# Altium integrated library NXP Microcontrollers ARM7.IntLib: 82 symbols (part 3 of 11)
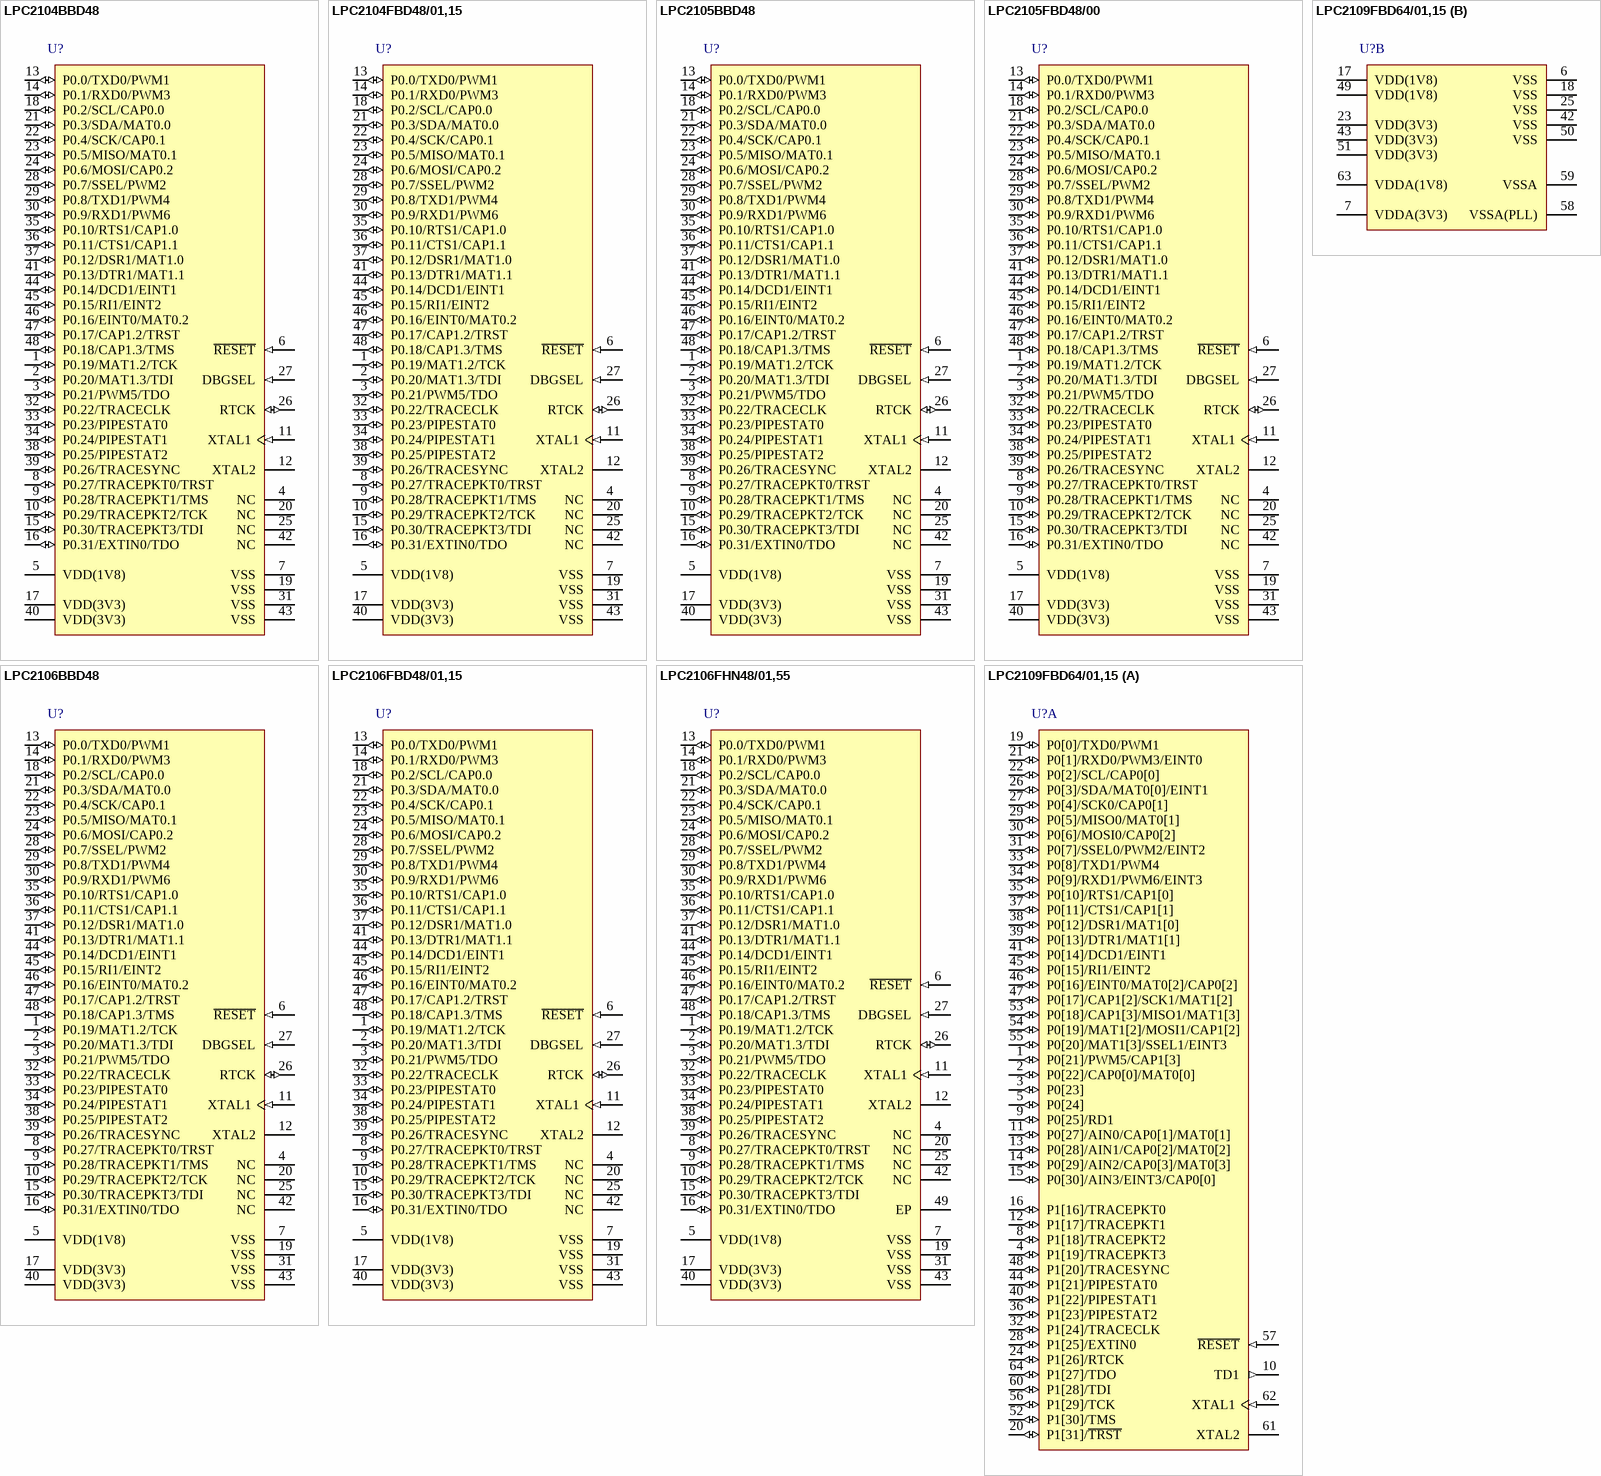
[diagram p37: symbols LPC2104BBD48 to LPC2109FBD64/01,15]

## LPC2106FBD48/01,15
designator U?
16/32-bit ARM7 Microcontroller, 32 I/O, 128 kB Flash, 64 kB SRAM, -40 to 85 degC, 48-Pin LQFP, Tray; Manufacturer: NXP Semiconductors; PartNumber: LPC2106FBD48/01,15; # of timers: 2; Flash (KB): 128; fmax [max] (MHz): 60; I/O Pins: 32; I2C: 1; PLL: TRUE; PWM: 6; RAM (KB): 64; DatasheetVersion: Rev. 07; PackageVersion: Feb-03; PackageReference: SOT313-2; PackageDescription: 48-Pin Plastic Low Profile Quad Flat Package, Body 7 x 7 mm, Pitch 0.5 mm; Supplier 1: Digi-Key; Supplier Part Number 1: 568-4367-ND; Supplier 2: Farnell; Supplier Part Number 2: 1868297; Supplier 3: Newark; Supplier Part Number 3: 70R5613; Supplier 4: Mouser; Supplier Part Number 4: 771-LPC2106FBD48/01S; Core: ARM7; Packing: Tray; SPI: 1; Timer (bits): 32; UART: 2; Mounting Technology: Surface Mount; Code_JEDEC: MS-026; ComponentLink1Description: Manufacturer URL; ComponentLink1URL: http://www.nxp.com/; ComponentLink2Description: Datasheet; ComponentLink2URL: http://www.nxp.com/documents/data_sheet/LPC2104_2105_2106.pdf; ComponentLink3Description: Package Specification; ComponentLink3URL: http://www.nxp.com/documents/outline_drawing/sot313-2_po.pdf
footprint NXP-SOT313-2_V (QFP, 48-Leads, Body 7x7mm, Pitch 0.5mm)
pins: 1 P0.19/MAT1.2/TCK (io), 2 P0.20/MAT1.3/TDI (io), 3 P0.21/PWM5/TDO (io), 4 NC "not connected; these pins are not connected in the 48-pin package.", 5 VDD(1V8) (power) "1.8 V core power supply; this is the power supply voltage for internal circuitry.", 6 ~{RESET} (in) "external reset input; a LOW on this pin resets the device, causing I/O ports and peripherals to take on their default states, and processor execution to begin at address 0. TTL with hysteresis, 5 V tolerant.", 7 VSS (power) "ground: 0 V reference.", 8 P0.27/TRACEPKT0/TRST (io), 9 P0.28/TRACEPKT1/TMS (io), 10 P0.29/TRACEPKT2/TCK (io), 11 XTAL1 (in) "input to the oscillator circuit and internal clock generator circuits.", 12 XTAL2 "output from the oscillator amplifier.", 13 P0.0/TXD0/PWM1 (io), 14 P0.1/RXD0/PWM3 (io), 15 P0.30/TRACEPKT3/TDI (io), 16 P0.31/EXTIN0/TDO (io), 17 VDD(3V3) (power) "3.3 V pad power supply; this is the power supply voltage for the I/O ports.", 18 P0.2/SCL/CAP0.0 (io), 19 VSS (power) "ground: 0 V reference.", 20 NC "not connected; these pins are not connected in the 48-pin package.", 21 P0.3/SDA/MAT0.0 (io), 22 P0.4/SCK/CAP0.1 (io), 23 P0.5/MISO/MAT0.1 (io), 24 P0.6/MOSI/CAP0.2 (io), 25 NC "not connected; these pins are not connected in the 48-pin package.", 26 RTCK (io) "Returned Test Clock output: Extra signal added to the JTAG port. Assists debugger synchronization when processor frequency varies. Also used during debug mode entry to select primary or secondary JTAG pins with the 48-pin (See Datasheet)", 27 DBGSEL (in) "Debug Select: When LOW, the part operates normally. When HIGH, debug mode is entered. Input pin with internal pull-down.", 28 P0.7/SSEL/PWM2 (io), 29 P0.8/TXD1/PWM4 (io), 30 P0.9/RXD1/PWM6 (io), 31 VSS (power) "ground: 0 V reference.", 32 P0.22/TRACECLK (io), 33 P0.23/PIPESTAT0 (io), 34 P0.24/PIPESTAT1 (io), 35 P0.10/RTS1/CAP1.0 (io), 36 P0.11/CTS1/CAP1.1 (io), 37 P0.12/DSR1/MAT1.0 (io), 38 P0.25/PIPESTAT2 (io), 39 P0.26/TRACESYNC (io), 40 VDD(3V3) (power) "3.3 V pad power supply; this is the power supply voltage for the I/O ports.", 41 P0.13/DTR1/MAT1.1 (io), 42 NC, 43 VSS (power) "ground: 0 V reference.", 44 P0.14/DCD1/EINT1 (io), 45 P0.15/RI1/EINT2 (io), 46 P0.16/EINT0/MAT0.2 (io), 47 P0.17/CAP1.2/TRST (io), 48 P0.18/CAP1.3/TMS (io)

## LPC2106FHN48/01,55
designator U?
16/32-bit ARM7 Microcontroller, 32 I/O, 128 kB Flash, 64 kB SRAM, -40 to 85 degC, 48-Pin HVQFN, Tray; Manufacturer: NXP Semiconductors; PartNumber: LPC2106FHN48/01,55; # of timers: 2; Flash (KB): 128; fmax [max] (MHz): 60; I/O Pins: 32; I2C: 1; PLL: TRUE; PWM: 6; RAM (KB): 64; DatasheetVersion: Rev. 07; PackageVersion: Nov-12; PackageReference: SOT619-1; PackageDescription: 48-Pin Plastic Thermal Enhanced Very Thin Quad Flat Package, Body 7 x 7 mm, Pitch 0.5 mm; Supplier 1: Digi-Key; Supplier Part Number 1: 568-4368-ND; Supplier 2: Newark; Supplier Part Number 2: 70R5614; Supplier 3: Mouser; Supplier Part Number 3: 771-LPC2106FHN48/01S; Core: ARM7; Packing: Tray; SPI: 1; SSP: 1; Timer (bits): 32; UART: 2; Mounting Technology: Surface Mount; Code_JEDEC: MO-220; ComponentLink1Description: Manufacturer URL; ComponentLink1URL: http://www.nxp.com/; ComponentLink2Description: Datasheet; ComponentLink2URL: http://www.nxp.com/documents/data_sheet/LPC2104_2105_2106.pdf; ComponentLink3Description: Package Specification; ComponentLink3URL: http://www.nxp.com/documents/outline_drawing/sot619-1_po.pdf
footprint NXP-SOT619-1_V (QFN, 48-Leads, Body 7x7mm, Pitch 0.5mm, Thermal Pad 5.1x5.1mm)
pins: 1 P0.19/MAT1.2/TCK (io), 2 P0.20/MAT1.3/TDI (io), 3 P0.21/PWM5/TDO (io), 4 NC "not connected; these pins are not connected in the 48-pin package.", 5 VDD(1V8) (power) "1.8 V core power supply; this is the power supply voltage for internal circuitry.", 6 ~{RESET} (in) "external reset input; a LOW on this pin resets the device, causing I/O ports and peripherals to take on their default states, and processor execution to begin at address 0. TTL with hysteresis, 5 V tolerant.", 7 VSS (power) "ground: 0 V reference.", 8 P0.27/TRACEPKT0/TRST (io), 9 P0.28/TRACEPKT1/TMS (io), 10 P0.29/TRACEPKT2/TCK (io), 11 XTAL1 (in) "input to the oscillator circuit and internal clock generator circuits.", 12 XTAL2 "output from the oscillator amplifier.", 13 P0.0/TXD0/PWM1 (io), 14 P0.1/RXD0/PWM3 (io), 15 P0.30/TRACEPKT3/TDI (io), 16 P0.31/EXTIN0/TDO (io), 17 VDD(3V3) (power) "3.3 V pad power supply; this is the power supply voltage for the I/O ports.", 18 P0.2/SCL/CAP0.0 (io), 19 VSS (power) "ground: 0 V reference.", 20 NC "not connected; these pins are not connected in the 48-pin package.", 21 P0.3/SDA/MAT0.0 (io), 22 P0.4/SCK/CAP0.1 (io), 23 P0.5/MISO/MAT0.1 (io), 24 P0.6/MOSI/CAP0.2 (io), 25 NC "not connected; these pins are not connected in the 48-pin package.", 26 RTCK (io) "Returned Test Clock output: Extra signal added to the JTAG port. Assistsdebugger synchronization when processor frequency varies. Also used during debug mode entry to select primary or secondary JTAG pins with the (See Datasheet)", 27 DBGSEL (in) "Debug Select: When LOW, the part operates normally. When HIGH, debug mode is entered. Input pin with internal pull-down.", 28 P0.7/SSEL/PWM2 (io), 29 P0.8/TXD1/PWM4 (io), 30 P0.9/RXD1/PWM6 (io), 31 VSS (power) "ground: 0 V reference.", 32 P0.22/TRACECLK (io), 33 P0.23/PIPESTAT0 (io), 34 P0.24/PIPESTAT1 (io), 35 P0.10/RTS1/CAP1.0 (io), 36 P0.11/CTS1/CAP1.1 (io), 37 P0.12/DSR1/MAT1.0 (io), 38 P0.25/PIPESTAT2 (io), 39 P0.26/TRACESYNC (io), 40 VDD(3V3) (power) "3.3 V pad power supply; this is the power supply voltage for the I/O ports.", 41 P0.13/DTR1/MAT1.1 (io), 42 NC "not connected; these pins are not connected in the 48-pin package.", 43 VSS (power) "ground: 0 V reference.", 44 P0.14/DCD1/EINT1 (io), 45 P0.15/RI1/EINT2 (io), 46 P0.16/EINT0/MAT0.2 (io), 47 P0.17/CAP1.2/TRST (io), 48 P0.18/CAP1.3/TMS (io), 49 EP

## LPC2109FBD64/01,15
designator U?
16/32-bit ARM7 Microcontroller, 46 I/O, 64 kB Flash, 8 kB SRAM, -40 to 85 degC, 64-Pin LQFP, Tray; Manufacturer: NXP Semiconductors; PartNumber: LPC2109FBD64/01,15; # of timers: 2; ADC (bits): 10; ADC Channels: 4; CAN: 1; Flash (KB): 64; fmax [max] (MHz): 60; I/O Pins: 46; PLL: TRUE; PWM: 6; RAM (KB): 8; Timer (bits): 32; DatasheetVersion: Rev. 7; PackageVersion: Feb-03; PackageReference: SOT314-2; PackageDescription: 64-Pin Plastic Low Profile Quad Flat Package, Body 10 x 10 mm, Pitch 0.5 mm; Supplier 1: Digi-Key; Supplier Part Number 1: 568-4311-ND; Supplier 2: Newark; Supplier Part Number 2: 70R5615; Supplier 3: Mouser; Supplier Part Number 3: 771-LPC2109FBD64/01S; Core: ARM7; I2C: 1; Packing: Tray; SPI: 2; SSP: 1; UART: 2; Mounting Technology: Surface Mount; Code_JEDEC: MS-026; ComponentLink1Description: Manufacturer URL; ComponentLink1URL: http://www.nxp.com/; ComponentLink2Description: Datasheet; ComponentLink2URL: http://www.nxp.com/documents/data_sheet/LPC2109_2119_2129.pdf; ComponentLink3Description: Package Specification; ComponentLink3URL: http://www.nxp.com/documents/outline_drawing/sot314-2_po.pdf
footprint NXP-SOT314-2_V (QFP, 64-Leads, Body 10x10mm, Pitch 0.5mm)
part A pins: 1 P0[21]/PWM5/CAP1[3] (io), 2 P0[22]/CAP0[0]/MAT0[0] (io), 3 P0[23] (io), 4 P1[19]/TRACEPKT3 (io), 5 P0[24] (io), 8 P1[18]/TRACEPKT2 (io), 9 P0[25]/RD1 (io), 10 TD1 (out) "CAN1 transmitter output.", 11 P0[27]/AIN0/CAP0[1]/MAT0[1] (io), 12 P1[17]/TRACEPKT1 (io), 13 P0[28]/AIN1/CAP0[2]/MAT0[2] (io), 14 P0[29]/AIN2/CAP0[3]/MAT0[3] (io), 15 P0[30]/AIN3/EINT3/CAP0[0] (io), 16 P1[16]/TRACEPKT0 (io), 19 P0[0]/TXD0/PWM1 (io), 20 P1[31]/~{TRST} (io), 21 P0[1]/RXD0/PWM3/EINT0 (io), 22 P0[2]/SCL/CAP0[0] (io), 24 P1[26]/RTCK (io), 26 P0[3]/SDA/MAT0[0]/EINT1 (io), 27 P0[4]/SCK0/CAP0[1] (io), 28 P1[25]/EXTIN0 (io), 29 P0[5]/MISO0/MAT0[1] (io), 30 P0[6]/MOSI0/CAP0[2] (io), 31 P0[7]/SSEL0/PWM2/EINT2 (io), 32 P1[24]/TRACECLK (io), 33 P0[8]/TXD1/PWM4 (io), 34 P0[9]/RXD1/PWM6/EINT3 (io), 35 P0[10]/RTS1/CAP1[0] (io), 36 P1[23]/PIPESTAT2 (io), 37 P0[11]/CTS1/CAP1[1] (io), 38 P0[12]/DSR1/MAT1[0] (io), 39 P0[13]/DTR1/MAT1[1] (io), 40 P1[22]/PIPESTAT1 (io), 41 P0[14]/DCD1/EINT1 (io), 44 P1[21]/PIPESTAT0 (io), 45 P0[15]/RI1/EINT2 (io), 46 P0[16]/EINT0/MAT0[2]/CAP0[2] (io), 47 P0[17]/CAP1[2]/SCK1/MAT1[2] (io), 48 P1[20]/TRACESYNC (io), 52 P1[30]/TMS (io), 53 P0[18]/CAP1[3]/MISO1/MAT1[3] (io), 54 P0[19]/MAT1[2]/MOSI1/CAP1[2] (io), 55 P0[20]/MAT1[3]/SSEL1/EINT3 (io), 56 P1[29]/TCK (io), 57 ~{RESET} (in) "External reset input; a LOW on this pin resets the device, causing I/O ports and peripherals to take on their default states, and processor execution to begin at address 0. TTL with hysteresis, 5 V tolerant.", 60 P1[28]/TDI (io), 61 XTAL2 "Output from the oscillator amplifier.", 62 XTAL1 (in) "Input to the oscillator circuit and internal clock generator circuits.", 64 P1[27]/TDO (io)
part B pins: 6 VSS (power) "Ground: 0 V reference.", 7 VDDA(3V3) (power) "Analog 3.3 V pad power supply; this should be nominally the same voltage as VDD(3V3) but should be isolated to minimize noise and error.", 17 VDD(1V8) (power) "1.8 V core power supply; this is the power supply voltage for internal circuitry.", 18 VSS (power) "Ground: 0 V reference.", 23 VDD(3V3) (power) "3.3 V pad power supply; this is the power supply voltage for the I/O ports.", 25 VSS (power) "Ground: 0 V reference.", 42 VSS (power) "Ground: 0 V reference.", 43 VDD(3V3) (power) "3.3 V pad power supply; this is the power supply voltage for the I/O ports.", 49 VDD(1V8) (power) "1.8 V core power supply; this is the power supply voltage for internal circuitry.", 50 VSS (power) "Ground: 0 V reference.", 51 VDD(3V3) (power) "3.3 V pad power supply; this is the power supply voltage for the I/O ports.", 58 VSSA(PLL) (power) "PLL analog ground; 0 V reference. This should nominally be the same voltage as VSS, but should be isolated to minimize noise and error.", 59 VSSA (power) "Analog ground; 0 V reference. This should nominally be the same voltage as VSS, but should be isolated to minimize noise and error.", 63 VDDA(1V8) (power) "Analog 1.8 V core power supply; this is the power supply voltage for internal circuitry. This should be nominally the same voltage as VDD(1V8) but should be isolated to minimize noise and error."

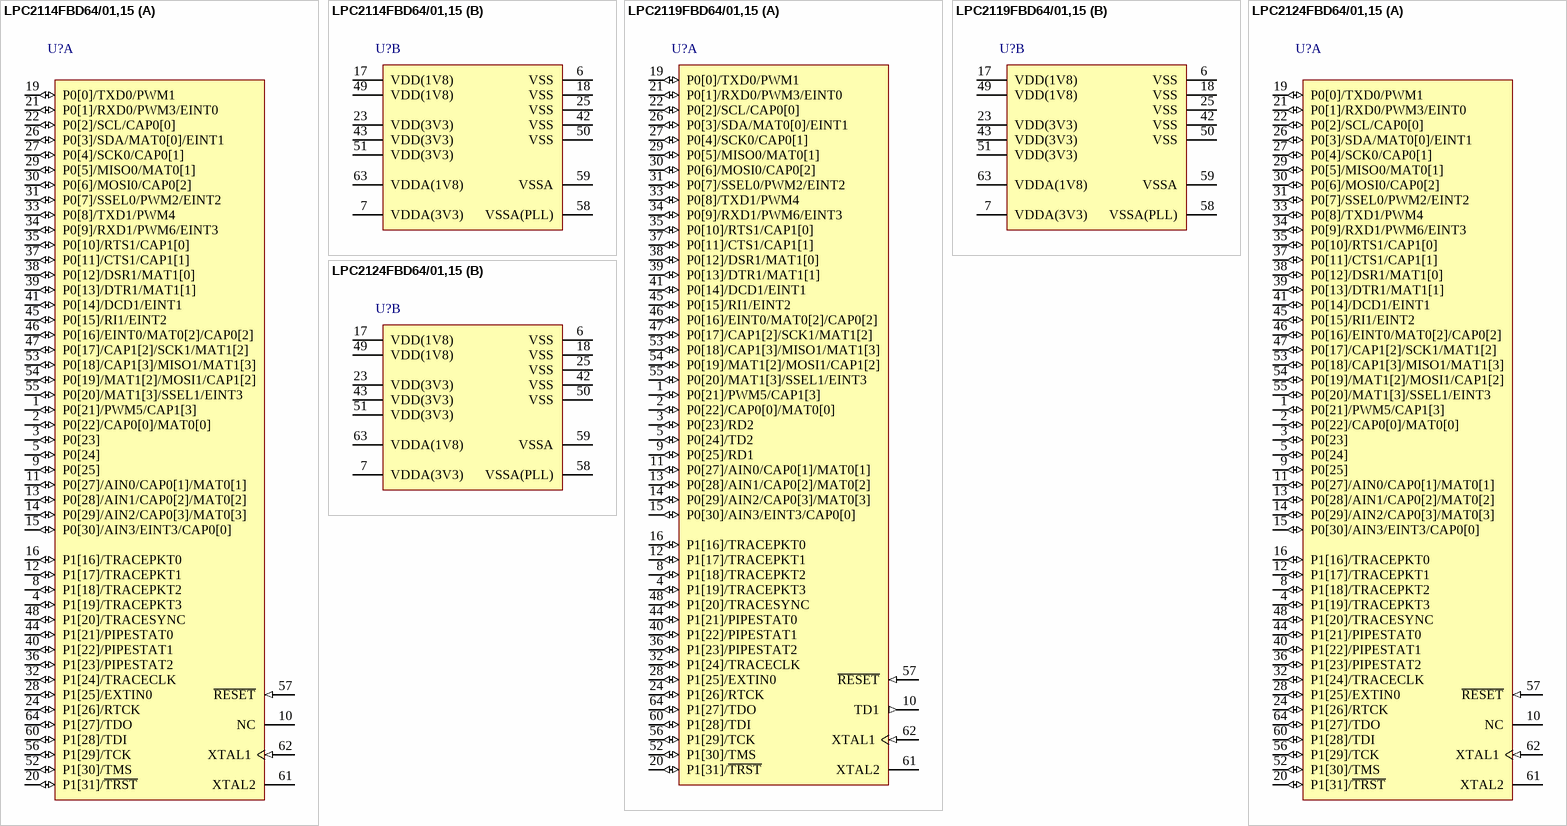
[diagram p6: symbols LPC2114FBD64/01,15 to LPC2124FBD64/01,15]

## LPC2114FBD64/01,15
designator U?
16/32-bit ARM7 Microcontroller, 46 I/O, 128 kB Flash, 16 kB SRAM, -40 to 85 degC, 64-Pin LQFP, Tray; Manufacturer: NXP Semiconductors; PartNumber: LPC2114FBD64/01,15; # of timers: 2; ADC (bits): 10; ADC Channels: 4; Flash (KB): 128; fmax [max] (MHz): 60; I/O Pins: 46; I2C: 1; PLL: TRUE; PWM: 6; RAM (KB): 16; Timer (bits): 32; DatasheetVersion: Rev. 7; PackageVersion: Feb-03; PackageReference: SOT314-2; PackageDescription: 64-Pin Plastic Low Profile Quad Flat Package, Body 10 x 10 mm, Pitch 0.5 mm; Supplier 1: Digi-Key; Supplier Part Number 1: 568-4312-ND; Supplier 2: Newark; Supplier Part Number 2: 70R5616; Supplier 3: Mouser; Supplier Part Number 3: 771-LPC2114FBD64/01S; Core: ARM7; Packing: Tray; SPI: 2; SSP: 1; UART: 2; Mounting Technology: Surface Mount; Code_JEDEC: MS-026; ComponentLink1Description: Manufacturer URL; ComponentLink1URL: http://www.nxp.com/; ComponentLink2Description: Datasheet; ComponentLink2URL: http://www.nxp.com/documents/data_sheet/LPC2114_2124.pdf; ComponentLink3Description: Package Specification; ComponentLink3URL: http://www.nxp.com/documents/outline_drawing/sot314-2_po.pdf
footprint NXP-SOT314-2_V (QFP, 64-Leads, Body 10x10mm, Pitch 0.5mm)
part A pins: 1 P0[21]/PWM5/CAP1[3] (io), 2 P0[22]/CAP0[0]/MAT0[0] (io), 3 P0[23] (io) "Port 0 is a 32-bit bidirectional I/O port with individual direction controls for each bit. The operation of port 0 pins depends upon the pin function selected via the Pin Connect Block. Pins 26 and 31 of port 0 are not (See Datasheet)", 4 P1[19]/TRACEPKT3 (io), 5 P0[24] (io) "Port 0 is a 32-bit bidirectional I/O port with individual direction controls for each bit. The operation of port 0 pins depends upon the pin function selected via the Pin Connect Block. Pins 26 and 31 of port 0 are not (See Datasheet)", 8 P1[18]/TRACEPKT2 (io), 9 P0[25] (io) "Port 0 is a 32-bit bidirectional I/O port with individual direction controls for each bit. The operation of port 0 pins depends upon the pin function selected via the Pin Connect Block. Pins 26 and 31 of port 0 are not (See Datasheet)", 10 NC "pin not connected.", 11 P0[27]/AIN0/CAP0[1]/MAT0[1] (io), 12 P1[17]/TRACEPKT1 (io), 13 P0[28]/AIN1/CAP0[2]/MAT0[2] (io), 14 P0[29]/AIN2/CAP0[3]/MAT0[3] (io), 15 P0[30]/AIN3/EINT3/CAP0[0] (io), 16 P1[16]/TRACEPKT0 (io), 19 P0[0]/TXD0/PWM1 (io), 20 P1[31]/~{TRST} (io), 21 P0[1]/RXD0/PWM3/EINT0 (io), 22 P0[2]/SCL/CAP0[0] (io), 24 P1[26]/RTCK (io), 26 P0[3]/SDA/MAT0[0]/EINT1 (io), 27 P0[4]/SCK0/CAP0[1] (io), 28 P1[25]/EXTIN0 (io), 29 P0[5]/MISO0/MAT0[1] (io), 30 P0[6]/MOSI0/CAP0[2] (io), 31 P0[7]/SSEL0/PWM2/EINT2 (io), 32 P1[24]/TRACECLK (io), 33 P0[8]/TXD1/PWM4 (io), 34 P0[9]/RXD1/PWM6/EINT3 (io), 35 P0[10]/RTS1/CAP1[0] (io), 36 P1[23]/PIPESTAT2 (io), 37 P0[11]/CTS1/CAP1[1] (io), 38 P0[12]/DSR1/MAT1[0] (io), 39 P0[13]/DTR1/MAT1[1] (io), 40 P1[22]/PIPESTAT1 (io), 41 P0[14]/DCD1/EINT1 (io), 44 P1[21]/PIPESTAT0 (io), 45 P0[15]/RI1/EINT2 (io), 46 P0[16]/EINT0/MAT0[2]/CAP0[2] (io), 47 P0[17]/CAP1[2]/SCK1/MAT1[2] (io), 48 P1[20]/TRACESYNC (io), 52 P1[30]/TMS (io), 53 P0[18]/CAP1[3]/MISO1/MAT1[3] (io), 54 P0[19]/MAT1[2]/MOSI1/CAP1[2] (io), 55 P0[20]/MAT1[3]/SSEL1/EINT3 (io), 56 P1[29]/TCK (io), 57 ~{RESET} (in) "external reset input; a LOW on this pin resets the device, causing I/O ports and peripherals to take on their default states, and processor execution to begin at address 0. TTL with hysteresis, 5 V tolerant.", 60 P1[28]/TDI (io), 61 XTAL2 "output from the oscillator amplifier.", 62 XTAL1 (in) "input to the oscillator circuit and internal clock generator circuits.", 64 P1[27]/TDO (io)
part B pins: 6 VSS (power) "ground: 0 V reference.", 7 VDDA(3V3) (power) "analog 3.3 V pad power supply; this should be nominally the same voltage as VDD(3V3) but should be isolated to minimize noise and error", 17 VDD(1V8) (power) "1.8 V core power supply; this is the power supply voltage for internal circuitry.", 18 VSS (power) "ground: 0 V reference.", 23 VDD(3V3) (power) "3.3 V pad power supply; this is the power supply voltage for the I/O ports", 25 VSS (power) "ground: 0 V reference.", 42 VSS (power) "ground: 0 V reference.", 43 VDD(3V3) (power) "3.3 V pad power supply; this is the power supply voltage for the I/O ports", 49 VDD(1V8) (power) "1.8 V core power supply; this is the power supply voltage for internal circuitry.", 50 VSS (power) "ground: 0 V reference.", 51 VDD(3V3) (power) "3.3 V pad power supply; this is the power supply voltage for the I/O ports", 58 VSSA(PLL) (power) "PLL analog ground; 0 V reference. This should nominally be the same voltage as VSS, but should be isolated to minimize noise and error", 59 VSSA (power) "analog ground; 0 V reference. This should nominally be the same voltage as VSS, but should be isolated to minimize noise and error.", 63 VDDA(1V8) (power) "analog 1.8 V core power supply; this is the power supply voltage for internal circuitry. This should be nominally the same voltage as VDD(1V8) but should be isolated to minimize noise and error."

## LPC2119FBD64/01,15
designator U?
16/32-bit ARM7 Microcontroller, 46 I/O, 128 kB Flash, 16 kB SRAM, -40 to 85 degC, 64-Pin LQFP, Tray; Manufacturer: NXP Semiconductors; PartNumber: LPC2119FBD64/01,15; # of timers: 2; ADC (bits): 10; ADC Channels: 4; Flash (KB): 128; fmax [max] (MHz): 60; I/O Pins: 46; I2C: 1; PLL: TRUE; PWM: 6; RAM (KB): 16; Timer (bits): 32; DatasheetVersion: Rev. 7; PackageVersion: Feb-03; PackageReference: SOT314-2; PackageDescription: 64-Pin Plastic Low Profile Quad Flat Package, Body 10 x 10 mm, Pitch 0.5 mm; Supplier 1: Digi-Key; Supplier Part Number 1: 568-4313-ND; Supplier 2: Farnell; Supplier Part Number 2: 2407831; Supplier 3: Newark; Supplier Part Number 3: 70R5617; Supplier 4: Mouser; Supplier Part Number 4: 771-LPC2119FBD64/01S; CAN: 2; Core: ARM7; Packing: Tray; SPI: 2; UART: 2; Mounting Technology: Surface Mount; Code_JEDEC: MS-026; ComponentLink1Description: Manufacturer URL; ComponentLink1URL: http://www.nxp.com/; ComponentLink2Description: Datasheet; ComponentLink2URL: http://www.nxp.com/documents/data_sheet/LPC2109_2119_2129.pdf; ComponentLink3Description: Package Specification; ComponentLink3URL: http://www.nxp.com/documents/outline_drawing/sot314-2_po.pdf
footprint NXP-SOT314-2_V (QFP, 64-Leads, Body 10x10mm, Pitch 0.5mm)
part A pins: 1 P0[21]/PWM5/CAP1[3] (io), 2 P0[22]/CAP0[0]/MAT0[0] (io), 3 P0[23]/RD2 (io), 4 P1[19]/TRACEPKT3 (io), 5 P0[24]/TD2 (io), 8 P1[18]/TRACEPKT2 (io), 9 P0[25]/RD1 (io), 10 TD1 (out) "CAN1 transmitter output.", 11 P0[27]/AIN0/CAP0[1]/MAT0[1] (io), 12 P1[17]/TRACEPKT1 (io), 13 P0[28]/AIN1/CAP0[2]/MAT0[2] (io), 14 P0[29]/AIN2/CAP0[3]/MAT0[3] (io), 15 P0[30]/AIN3/EINT3/CAP0[0] (io), 16 P1[16]/TRACEPKT0 (io), 19 P0[0]/TXD0/PWM1 (io), 20 P1[31]/~{TRST} (io), 21 P0[1]/RXD0/PWM3/EINT0 (io), 22 P0[2]/SCL/CAP0[0] (io), 24 P1[26]/RTCK (io), 26 P0[3]/SDA/MAT0[0]/EINT1 (io), 27 P0[4]/SCK0/CAP0[1] (io), 28 P1[25]/EXTIN0 (io), 29 P0[5]/MISO0/MAT0[1] (io), 30 P0[6]/MOSI0/CAP0[2] (io), 31 P0[7]/SSEL0/PWM2/EINT2 (io), 32 P1[24]/TRACECLK (io), 33 P0[8]/TXD1/PWM4 (io), 34 P0[9]/RXD1/PWM6/EINT3 (io), 35 P0[10]/RTS1/CAP1[0] (io), 36 P1[23]/PIPESTAT2 (io), 37 P0[11]/CTS1/CAP1[1] (io), 38 P0[12]/DSR1/MAT1[0] (io), 39 P0[13]/DTR1/MAT1[1] (io), 40 P1[22]/PIPESTAT1 (io), 41 P0[14]/DCD1/EINT1 (io), 44 P1[21]/PIPESTAT0 (io), 45 P0[15]/RI1/EINT2 (io), 46 P0[16]/EINT0/MAT0[2]/CAP0[2] (io), 47 P0[17]/CAP1[2]/SCK1/MAT1[2] (io), 48 P1[20]/TRACESYNC (io), 52 P1[30]/TMS (io), 53 P0[18]/CAP1[3]/MISO1/MAT1[3] (io), 54 P0[19]/MAT1[2]/MOSI1/CAP1[2] (io), 55 P0[20]/MAT1[3]/SSEL1/EINT3 (io), 56 P1[29]/TCK (io), 57 ~{RESET} (in) "External reset input; a LOW on this pin resets the device, causing I/O ports and peripherals to take on their default states, and processor execution to begin at address 0. TTL with hysteresis, 5 V tolerant.", 60 P1[28]/TDI (io), 61 XTAL2 "Output from the oscillator amplifier.", 62 XTAL1 (in) "Input to the oscillator circuit and internal clock generator circuits.", 64 P1[27]/TDO (io)
part B pins: 6 VSS (power) "Ground: 0 V reference.", 7 VDDA(3V3) (power) "Analog 3.3 V pad power supply; this should be nominally the same voltage as VDD(3V3) but should be isolated to minimize noise and error.", 17 VDD(1V8) (power) "1.8 V core power supply; this is the power supply voltage for internal circuitry.", 18 VSS (power) "Ground: 0 V reference.", 23 VDD(3V3) (power) "3.3 V pad power supply; this is the power supply voltage for the I/O ports.", 25 VSS (power) "Ground: 0 V reference.", 42 VSS (power) "Ground: 0 V reference.", 43 VDD(3V3) (power) "3.3 V pad power supply; this is the power supply voltage for the I/O ports.", 49 VDD(1V8) (power) "1.8 V core power supply; this is the power supply voltage for internal circuitry.", 50 VSS (power) "Ground: 0 V reference.", 51 VDD(3V3) (power) "3.3 V pad power supply; this is the power supply voltage for the I/O ports.", 58 VSSA(PLL) (power) "PLL analog ground; 0 V reference. This should nominally be the same voltage as VSS, but should be isolated to minimize noise and error.", 59 VSSA (power) "Analog ground; 0 V reference. This should nominally be the same voltage as VSS, but should be isolated to minimize noise and error.", 63 VDDA(1V8) (power) "Analog 1.8 V core power supply; this is the power supply voltage for internal circuitry. This should be nominally the same voltage as VDD(1V8) but should be isolated to minimize noise and error."

## LPC2124FBD64/01,15
designator U?
16/32-bit ARM7 Microcontroller, 46 I/O, 256 kB Flash, 16 kB SRAM, -40 to 85 degC, 64-Pin LQFP, Tray; Manufacturer: NXP Semiconductors; PartNumber: LPC2124FBD64/01,15; # of timers: 2; ADC (bits): 10; ADC Channels: 4; Flash (KB): 256; fmax [max] (MHz): 60; I/O Pins: 46; I2C: 1; PLL: TRUE; PWM: 6; RAM (KB): 16; Timer (bits): 32; DatasheetVersion: Rev. 7; PackageVersion: Feb-03; PackageReference: SOT314-2; PackageDescription: 64-Pin Plastic Low Profile Quad Flat Package, Body 10 x 10 mm, Pitch 0.5 mm; Supplier 1: Digi-Key; Supplier Part Number 1: 568-4314-ND; Supplier 2: Newark; Supplier Part Number 2: 70R5618; Supplier 3: Mouser; Supplier Part Number 3: 771-LPC2124FBD64/01S; Core: ARM7; Packing: Tray; SPI: 2; SSP: 1; UART: 2; Mounting Technology: Surface Mount; Code_JEDEC: MS-026; ComponentLink1Description: Manufacturer URL; ComponentLink1URL: http://www.nxp.com/; ComponentLink2Description: Datasheet; ComponentLink2URL: http://www.nxp.com/documents/data_sheet/LPC2114_2124.pdf; ComponentLink3Description: Package Specification; ComponentLink3URL: http://www.nxp.com/documents/outline_drawing/sot314-2_po.pdf
footprint NXP-SOT314-2_V (QFP, 64-Leads, Body 10x10mm, Pitch 0.5mm)
part A pins: 1 P0[21]/PWM5/CAP1[3] (io), 2 P0[22]/CAP0[0]/MAT0[0] (io), 3 P0[23] (io) "Port 0 is a 32-bit bidirectional I/O port with individual direction controls for each bit. The operation of port 0 pins depends upon the pin function selected via the Pin Connect Block. Pins 26 and 31 of port 0 are not (See Datasheet)", 4 P1[19]/TRACEPKT3 (io), 5 P0[24] (io) "Port 0 is a 32-bit bidirectional I/O port with individual direction controls for each bit. The operation of port 0 pins depends upon the pin function selected via the Pin Connect Block. Pins 26 and 31 of port 0 are not (See Datasheet)", 8 P1[18]/TRACEPKT2 (io), 9 P0[25] (io) "Port 0 is a 32-bit bidirectional I/O port with individual direction controls for each bit. The operation of port 0 pins depends upon the pin function selected via the Pin Connect Block. Pins 26 and 31 of port 0 are not (See Datasheet)", 10 NC "pin not connected.", 11 P0[27]/AIN0/CAP0[1]/MAT0[1] (io), 12 P1[17]/TRACEPKT1 (io), 13 P0[28]/AIN1/CAP0[2]/MAT0[2] (io), 14 P0[29]/AIN2/CAP0[3]/MAT0[3] (io), 15 P0[30]/AIN3/EINT3/CAP0[0] (io), 16 P1[16]/TRACEPKT0 (io), 19 P0[0]/TXD0/PWM1 (io), 20 P1[31]/~{TRST} (io), 21 P0[1]/RXD0/PWM3/EINT0 (io), 22 P0[2]/SCL/CAP0[0] (io), 24 P1[26]/RTCK (io), 26 P0[3]/SDA/MAT0[0]/EINT1 (io), 27 P0[4]/SCK0/CAP0[1] (io), 28 P1[25]/EXTIN0 (io), 29 P0[5]/MISO0/MAT0[1] (io), 30 P0[6]/MOSI0/CAP0[2] (io), 31 P0[7]/SSEL0/PWM2/EINT2 (io), 32 P1[24]/TRACECLK (io), 33 P0[8]/TXD1/PWM4 (io), 34 P0[9]/RXD1/PWM6/EINT3 (io), 35 P0[10]/RTS1/CAP1[0] (io), 36 P1[23]/PIPESTAT2 (io), 37 P0[11]/CTS1/CAP1[1] (io), 38 P0[12]/DSR1/MAT1[0] (io), 39 P0[13]/DTR1/MAT1[1] (io), 40 P1[22]/PIPESTAT1 (io), 41 P0[14]/DCD1/EINT1 (io), 44 P1[21]/PIPESTAT0 (io), 45 P0[15]/RI1/EINT2 (io), 46 P0[16]/EINT0/MAT0[2]/CAP0[2] (io), 47 P0[17]/CAP1[2]/SCK1/MAT1[2] (io), 48 P1[20]/TRACESYNC (io), 52 P1[30]/TMS (io), 53 P0[18]/CAP1[3]/MISO1/MAT1[3] (io), 54 P0[19]/MAT1[2]/MOSI1/CAP1[2] (io), 55 P0[20]/MAT1[3]/SSEL1/EINT3 (io), 56 P1[29]/TCK (io), 57 ~{RESET} (in) "external reset input; a LOW on this pin resets the device, causing I/O ports and peripherals to take on their default states, and processor execution to begin at address 0. TTL with hysteresis, 5 V tolerant.", 60 P1[28]/TDI (io), 61 XTAL2 "output from the oscillator amplifier.", 62 XTAL1 (in) "input to the oscillator circuit and internal clock generator circuits.", 64 P1[27]/TDO (io)
part B pins: 6 VSS (power) "ground: 0 V reference.", 7 VDDA(3V3) (power) "analog 3.3 V pad power supply; this should be nominally the same voltage as VDD(3V3) but should be isolated to minimize noise and error", 17 VDD(1V8) (power) "1.8 V core power supply; this is the power supply voltage for internal circuitry.", 18 VSS (power) "ground: 0 V reference.", 23 VDD(3V3) (power) "3.3 V pad power supply; this is the power supply voltage for the I/O ports", 25 VSS (power) "ground: 0 V reference.", 42 VSS (power) "ground: 0 V reference.", 43 VDD(3V3) (power) "3.3 V pad power supply; this is the power supply voltage for the I/O ports", 49 VDD(1V8) (power) "1.8 V core power supply; this is the power supply voltage for internal circuitry.", 50 VSS (power) "ground: 0 V reference.", 51 VDD(3V3) (power) "3.3 V pad power supply; this is the power supply voltage for the I/O ports", 58 VSSA(PLL) (power) "PLL analog ground; 0 V reference. This should nominally be the same voltage as VSS, but should be isolated to minimize noise and error", 59 VSSA (power) "analog ground; 0 V reference. This should nominally be the same voltage as VSS, but should be isolated to minimize noise and error.", 63 VDDA(1V8) (power) "analog 1.8 V core power supply; this is the power supply voltage for internal circuitry. This should be nominally the same voltage as VDD(1V8) but should be isolated to minimize noise and error."

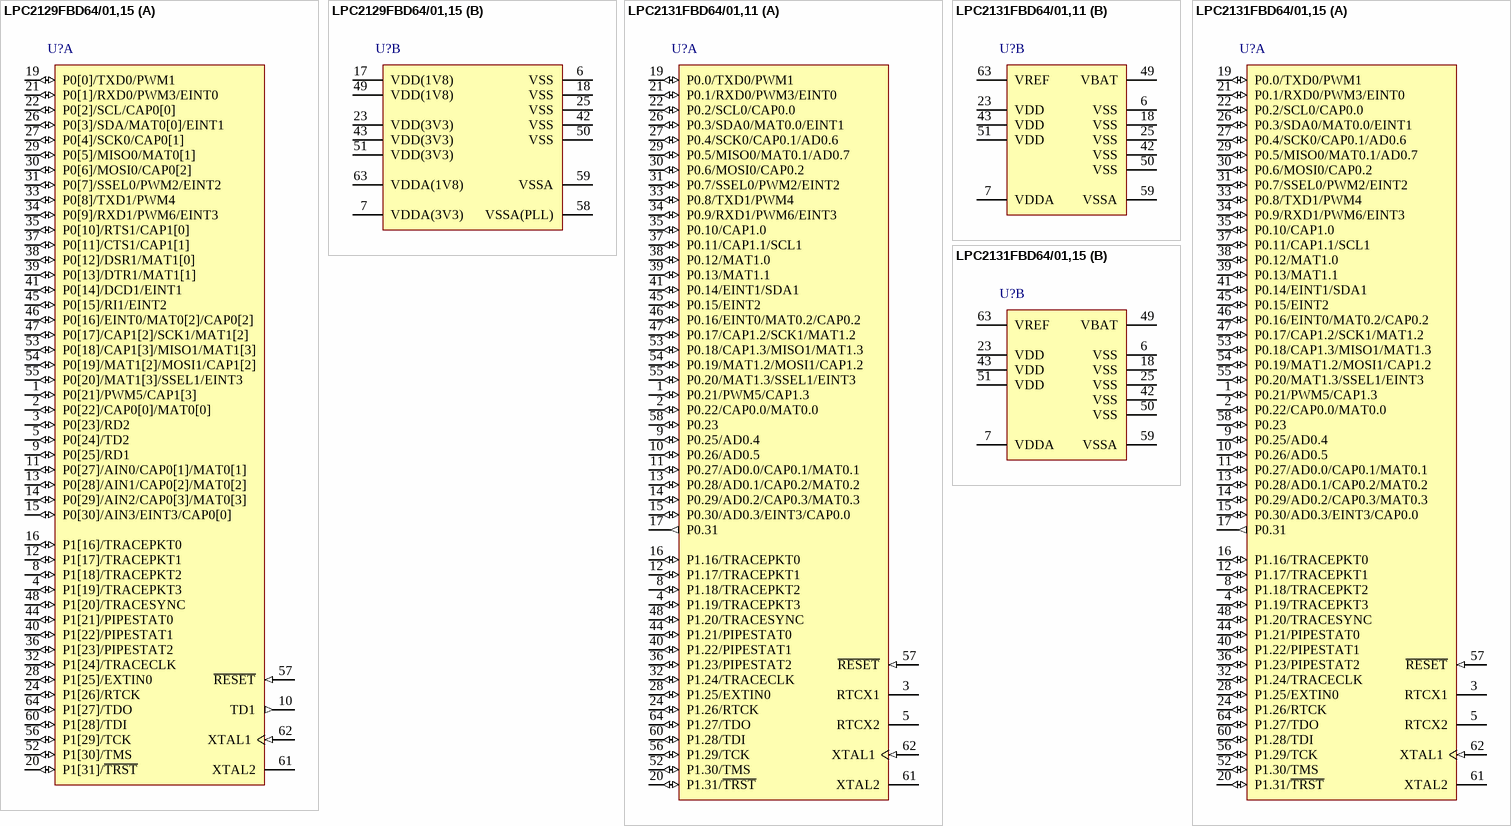
[diagram p7: symbols LPC2129FBD64/01,15 to LPC2131FBD64/01,15]

## LPC2129FBD64/01,15
designator U?
16/32-bit ARM7 Microcontroller, 46 I/O, 256 kB Flash, 16 kB SRAM, -40 to 85 degC, 64-Pin LQFP, Tray; Manufacturer: NXP Semiconductors; PartNumber: LPC2129FBD64/01,15; # of timers: 2; ADC (bits): 10; ADC Channels: 4; Flash (KB): 256; fmax [max] (MHz): 60; I/O Pins: 46; I2C: 1; PLL: TRUE; PWM: 6; RAM (KB): 16; Timer (bits): 32; DatasheetVersion: Rev. 7; PackageVersion: Feb-03; PackageReference: SOT314-2; PackageDescription: 64-Pin Plastic Low Profile Quad Flat Package, Body 10 x 10 mm, Pitch 0.5 mm; Supplier 1: Digi-Key; Supplier Part Number 1: 568-4315-ND; Supplier 2: Farnell; Supplier Part Number 2: 1831175; Supplier 3: Newark; Supplier Part Number 3: 70R5619; Supplier 4: Mouser; Supplier Part Number 4: 771-LPC2129FBD64/01S; CAN: 2; Core: ARM7; Packing: Tray; SPI: 2; SSP: 1; UART: 2; Mounting Technology: Surface Mount; Code_JEDEC: MS-026; ComponentLink1Description: Manufacturer URL; ComponentLink1URL: http://www.nxp.com/; ComponentLink2Description: Datasheet; ComponentLink2URL: http://www.nxp.com/documents/data_sheet/LPC2109_2119_2129.pdf; ComponentLink3Description: Package Specification; ComponentLink3URL: http://www.nxp.com/documents/outline_drawing/sot314-2_po.pdf
footprint NXP-SOT314-2_V (QFP, 64-Leads, Body 10x10mm, Pitch 0.5mm)
part A pins: 1 P0[21]/PWM5/CAP1[3] (io), 2 P0[22]/CAP0[0]/MAT0[0] (io), 3 P0[23]/RD2 (io), 4 P1[19]/TRACEPKT3 (io), 5 P0[24]/TD2 (io), 8 P1[18]/TRACEPKT2 (io), 9 P0[25]/RD1 (io), 10 TD1 (out) "CAN1 transmitter output.", 11 P0[27]/AIN0/CAP0[1]/MAT0[1] (io), 12 P1[17]/TRACEPKT1 (io), 13 P0[28]/AIN1/CAP0[2]/MAT0[2] (io), 14 P0[29]/AIN2/CAP0[3]/MAT0[3] (io), 15 P0[30]/AIN3/EINT3/CAP0[0] (io), 16 P1[16]/TRACEPKT0 (io), 19 P0[0]/TXD0/PWM1 (io), 20 P1[31]/~{TRST} (io), 21 P0[1]/RXD0/PWM3/EINT0 (io), 22 P0[2]/SCL/CAP0[0] (io), 24 P1[26]/RTCK (io), 26 P0[3]/SDA/MAT0[0]/EINT1 (io), 27 P0[4]/SCK0/CAP0[1] (io), 28 P1[25]/EXTIN0 (io), 29 P0[5]/MISO0/MAT0[1] (io), 30 P0[6]/MOSI0/CAP0[2] (io), 31 P0[7]/SSEL0/PWM2/EINT2 (io), 32 P1[24]/TRACECLK (io), 33 P0[8]/TXD1/PWM4 (io), 34 P0[9]/RXD1/PWM6/EINT3 (io), 35 P0[10]/RTS1/CAP1[0] (io), 36 P1[23]/PIPESTAT2 (io), 37 P0[11]/CTS1/CAP1[1] (io), 38 P0[12]/DSR1/MAT1[0] (io), 39 P0[13]/DTR1/MAT1[1] (io), 40 P1[22]/PIPESTAT1 (io), 41 P0[14]/DCD1/EINT1 (io), 44 P1[21]/PIPESTAT0 (io), 45 P0[15]/RI1/EINT2 (io), 46 P0[16]/EINT0/MAT0[2]/CAP0[2] (io), 47 P0[17]/CAP1[2]/SCK1/MAT1[2] (io), 48 P1[20]/TRACESYNC (io), 52 P1[30]/TMS (io), 53 P0[18]/CAP1[3]/MISO1/MAT1[3] (io), 54 P0[19]/MAT1[2]/MOSI1/CAP1[2] (io), 55 P0[20]/MAT1[3]/SSEL1/EINT3 (io), 56 P1[29]/TCK (io), 57 ~{RESET} (in) "External reset input; a LOW on this pin resets the device, causing I/O ports and peripherals to take on their default states, and processor execution to begin at address 0. TTL with hysteresis, 5 V tolerant.", 60 P1[28]/TDI (io), 61 XTAL2 "Output from the oscillator amplifier.", 62 XTAL1 (in) "Input to the oscillator circuit and internal clock generator circuits.", 64 P1[27]/TDO (io)
part B pins: 6 VSS (power) "Ground: 0 V reference.", 7 VDDA(3V3) (power) "Analog 3.3 V pad power supply; this should be nominally the same voltage as VDD(3V3) but should be isolated to minimize noise and error.", 17 VDD(1V8) (power) "1.8 V core power supply; this is the power supply voltage for internal circuitry.", 18 VSS (power) "Ground: 0 V reference.", 23 VDD(3V3) (power) "3.3 V pad power supply; this is the power supply voltage for the I/O ports.", 25 VSS (power) "Ground: 0 V reference.", 42 VSS (power) "Ground: 0 V reference.", 43 VDD(3V3) (power) "3.3 V pad power supply; this is the power supply voltage for the I/O ports.", 49 VDD(1V8) (power) "1.8 V core power supply; this is the power supply voltage for internal circuitry.", 50 VSS (power) "Ground: 0 V reference.", 51 VDD(3V3) (power) "3.3 V pad power supply; this is the power supply voltage for the I/O ports.", 58 VSSA(PLL) (power) "PLL analog ground; 0 V reference. This should nominally be the same voltage as VSS, but should be isolated to minimize noise and error.", 59 VSSA (power) "Analog ground; 0 V reference. This should nominally be the same voltage as VSS, but should be isolated to minimize noise and error.", 63 VDDA(1V8) (power) "Analog 1.8 V core power supply; this is the power supply voltage for internal circuitry. This should be nominally the same voltage as VDD(1V8) but should be isolated to minimize noise and error."

## LPC2131FBD64/01,11
designator U?
16/32-bit ARM7 Microcontroller, 47 I/O, 32 kB Flash, 8 kB SRAM, -40 to 85 degC, 64-Pin LQFP, Reel; Manufacturer: NXP Semiconductors; PartNumber: LPC2131FBD64/01,11; # of timers: 2; ADC (bits): 10; ADC Channels: 8; Flash (KB): 32; fmax [max] (MHz): 60; I/O Pins: 47; PLL: TRUE; PWM: 6; SPI: 1; DatasheetVersion: Rev. 5.1; PackageVersion: Feb-03; PackageReference: SOT314-2; PackageDescription: 64-Pin Plastic Low Profile Quad Flat Package, Body 10 x 10 mm, Pitch 0.5 mm; Supplier 1: Digi-Key; Supplier Part Number 1: LPC2131FBD64/01,11-ND; Supplier 2: Newark; Supplier Part Number 2: 99R2722; Supplier 3: Mouser; Supplier Part Number 3: 771-LPC2131FBD640111; Core: ARM7; I2C: 2; Packing: Reel; RAM (KB): 8; SSP: 1; Timer (bits): 32; UART: 2; Mounting Technology: Surface Mount; Code_JEDEC: MS-026; ComponentLink1Description: Manufacturer URL; ComponentLink1URL: http://www.nxp.com/; ComponentLink2Description: Datasheet; ComponentLink2URL: http://www.nxp.com/documents/data_sheet/LPC2131_32_34_36_38.pdf; ComponentLink3Description: Package Specification; ComponentLink3URL: http://www.nxp.com/documents/outline_drawing/sot314-2_po.pdf
footprint NXP-SOT314-2_V (QFP, 64-Leads, Body 10x10mm, Pitch 0.5mm)
part A pins: 1 P0.21/PWM5/CAP1.3 (io), 2 P0.22/CAP0.0/MAT0.0 (io), 3 RTCX1 "Input to the RTC oscillator circuit.", 4 P1.19/TRACEPKT3 (io), 5 RTCX2 "Output from the RTC oscillator circuit.", 8 P1.18/TRACEPKT2 (io), 9 P0.25/AD0.4 (io), 10 P0.26/AD0.5 (io), 11 P0.27/AD0.0/CAP0.1/MAT0.1 (io), 12 P1.17/TRACEPKT1 (io), 13 P0.28/AD0.1/CAP0.2/MAT0.2 (io), 14 P0.29/AD0.2/CAP0.3/MAT0.3 (io), 15 P0.30/AD0.3/EINT3/CAP0.0 (io), 16 P1.16/TRACEPKT0 (io), 17 P0.31 (out) "General purpose digital output only pin.", 19 P0.0/TXD0/PWM1 (io), 20 P1.31/~{TRST} (io), 21 P0.1/RXD0/PWM3/EINT0 (io), 22 P0.2/SCL0/CAP0.0 (io), 24 P1.26/RTCK (io), 26 P0.3/SDA0/MAT0.0/EINT1 (io), 27 P0.4/SCK0/CAP0.1/AD0.6 (io), 28 P1.25/EXTIN0 (io), 29 P0.5/MISO0/MAT0.1/AD0.7 (io), 30 P0.6/MOSI0/CAP0.2 (io), 31 P0.7/SSEL0/PWM2/EINT2 (io), 32 P1.24/TRACECLK (io), 33 P0.8/TXD1/PWM4 (io), 34 P0.9/RXD1/PWM6/EINT3 (io), 35 P0.10/CAP1.0 (io), 36 P1.23/PIPESTAT2 (io), 37 P0.11/CAP1.1/SCL1 (io), 38 P0.12/MAT1.0 (io), 39 P0.13/MAT1.1 (io), 40 P1.22/PIPESTAT1 (io), 41 P0.14/EINT1/SDA1 (io), 44 P1.21/PIPESTAT0 (io), 45 P0.15/EINT2 (io), 46 P0.16/EINT0/MAT0.2/CAP0.2 (io), 47 P0.17/CAP1.2/SCK1/MAT1.2 (io), 48 P1.20/TRACESYNC (io), 52 P1.30/TMS (io), 53 P0.18/CAP1.3/MISO1/MAT1.3 (io), 54 P0.19/MAT1.2/MOSI1/CAP1.2 (io), 55 P0.20/MAT1.3/SSEL1/EINT3 (io), 56 P1.29/TCK (io), 57 ~{RESET} (in) "External reset input: A LOW on this pin resets the device, causing I/O ports and peripherals to take on their default states, and processor execution to begin at address 0. TTL with hysteresis, 5 V tolerant.", 58 P0.23 (io) "General purpose digital input/output pin.", 60 P1.28/TDI (io), 61 XTAL2 "Output from the oscillator amplifier.", 62 XTAL1 (in) "Input to the oscillator circuit and internal clock generator circuits.", 64 P1.27/TDO (io)
part B pins: 6 VSS (power) "Ground: 0 V reference.", 7 VDDA (power) "Analog 3.3 V power supply: This should be nominally the same voltage as VDD but should be isolated to minimize noise and error. This voltage is used to power the on-chip PLL.", 18 VSS (power) "Ground: 0 V reference.", 23 VDD (power) "3.3 V power supply: This is the power supply voltage for the core and I/O ports.", 25 VSS (power) "Ground: 0 V reference.", 42 VSS (power) "Ground: 0 V reference.", 43 VDD (power) "3.3 V power supply: This is the power supply voltage for the core and I/O ports.", 49 VBAT (power) "RTC power supply: 3.3 V on this pin supplies the power to the RTC.", 50 VSS (power) "Ground: 0 V reference.", 51 VDD (power) "3.3 V power supply: This is the power supply voltage for the core and I/O ports.", 59 VSSA (power) "Analog ground: 0 V reference. This should nominally be the same voltage as VSS, but should be isolated to minimize noise and error.", 63 VREF "ADC reference: This should be nominally the same voltage as VDD but should be isolated to minimize noise and error. Level on this pin is used as a reference for A/D and D/A convertor(s)."

## LPC2131FBD64/01,15
designator U?
16/32-bit ARM7 Microcontroller, 47 I/O, 32 kB Flash, 8 kB SRAM, -40 to 85 degC, 64-Pin LQFP, Tray; Manufacturer: NXP Semiconductors; PartNumber: LPC2131FBD64/01,15; # of timers: 2; ADC (bits): 10; ADC Channels: 8; Flash (KB): 32; fmax [max] (MHz): 60; I/O Pins: 47; PLL: TRUE; PWM: 6; SPI: 1; DatasheetVersion: Rev. 5.1; PackageVersion: Feb-03; PackageReference: SOT314-2; PackageDescription: 64-Pin Plastic Low Profile Quad Flat Package, Body 10 x 10 mm, Pitch 0.5 mm; Supplier 1: Digi-Key; Supplier Part Number 1: 568-4005-ND; Supplier 2: Farnell; Supplier Part Number 2: 1831176; Supplier 3: Newark; Supplier Part Number 3: 70R5620; Supplier 4: Mouser; Supplier Part Number 4: 771-LPC2131FBD64/01S; Core: ARM7; I2C: 2; Packing: Tray; RAM (KB): 8; SSP: 1; Timer (bits): 32; UART: 2; Mounting Technology: Surface Mount; Code_JEDEC: MS-026; ComponentLink1Description: Manufacturer URL; ComponentLink1URL: http://www.nxp.com/; ComponentLink2Description: Datasheet; ComponentLink2URL: http://www.nxp.com/documents/data_sheet/LPC2131_32_34_36_38.pdf; ComponentLink3Description: Package Specification; ComponentLink3URL: http://www.nxp.com/documents/outline_drawing/sot314-2_po.pdf
footprint NXP-SOT314-2_V (QFP, 64-Leads, Body 10x10mm, Pitch 0.5mm)
part A pins: 1 P0.21/PWM5/CAP1.3 (io), 2 P0.22/CAP0.0/MAT0.0 (io), 3 RTCX1 "Input to the RTC oscillator circuit.", 4 P1.19/TRACEPKT3 (io), 5 RTCX2 "Output from the RTC oscillator circuit.", 8 P1.18/TRACEPKT2 (io), 9 P0.25/AD0.4 (io), 10 P0.26/AD0.5 (io), 11 P0.27/AD0.0/CAP0.1/MAT0.1 (io), 12 P1.17/TRACEPKT1 (io), 13 P0.28/AD0.1/CAP0.2/MAT0.2 (io), 14 P0.29/AD0.2/CAP0.3/MAT0.3 (io), 15 P0.30/AD0.3/EINT3/CAP0.0 (io), 16 P1.16/TRACEPKT0 (io), 17 P0.31 (out) "General purpose digital output only pin.", 19 P0.0/TXD0/PWM1 (io), 20 P1.31/~{TRST} (io), 21 P0.1/RXD0/PWM3/EINT0 (io), 22 P0.2/SCL0/CAP0.0 (io), 24 P1.26/RTCK (io), 26 P0.3/SDA0/MAT0.0/EINT1 (io), 27 P0.4/SCK0/CAP0.1/AD0.6 (io), 28 P1.25/EXTIN0 (io), 29 P0.5/MISO0/MAT0.1/AD0.7 (io), 30 P0.6/MOSI0/CAP0.2 (io), 31 P0.7/SSEL0/PWM2/EINT2 (io), 32 P1.24/TRACECLK (io), 33 P0.8/TXD1/PWM4 (io), 34 P0.9/RXD1/PWM6/EINT3 (io), 35 P0.10/CAP1.0 (io), 36 P1.23/PIPESTAT2 (io), 37 P0.11/CAP1.1/SCL1 (io), 38 P0.12/MAT1.0 (io), 39 P0.13/MAT1.1 (io), 40 P1.22/PIPESTAT1 (io), 41 P0.14/EINT1/SDA1 (io), 44 P1.21/PIPESTAT0 (io), 45 P0.15/EINT2 (io), 46 P0.16/EINT0/MAT0.2/CAP0.2 (io), 47 P0.17/CAP1.2/SCK1/MAT1.2 (io), 48 P1.20/TRACESYNC (io), 52 P1.30/TMS (io), 53 P0.18/CAP1.3/MISO1/MAT1.3 (io), 54 P0.19/MAT1.2/MOSI1/CAP1.2 (io), 55 P0.20/MAT1.3/SSEL1/EINT3 (io), 56 P1.29/TCK (io), 57 ~{RESET} (in) "External reset input: A LOW on this pin resets the device, causing I/O ports and peripherals to take on their default states, and processor execution to begin at address 0. TTL with hysteresis, 5 V tolerant.", 58 P0.23 (io) "General purpose digital input/output pin.", 60 P1.28/TDI (io), 61 XTAL2 "Output from the oscillator amplifier.", 62 XTAL1 (in) "Input to the oscillator circuit and internal clock generator circuits.", 64 P1.27/TDO (io)
part B pins: 6 VSS (power) "Ground: 0 V reference.", 7 VDDA (power) "Analog 3.3 V power supply: This should be nominally the same voltage as VDD but should be isolated to minimize noise and error. This voltage is used to power the on-chip PLL.", 18 VSS (power) "Ground: 0 V reference.", 23 VDD (power) "3.3 V power supply: This is the power supply voltage for the core and I/O ports.", 25 VSS (power) "Ground: 0 V reference.", 42 VSS (power) "Ground: 0 V reference.", 43 VDD (power) "3.3 V power supply: This is the power supply voltage for the core and I/O ports.", 49 VBAT (power) "RTC power supply: 3.3 V on this pin supplies the power to the RTC.", 50 VSS (power) "Ground: 0 V reference.", 51 VDD (power) "3.3 V power supply: This is the power supply voltage for the core and I/O ports.", 59 VSSA (power) "Analog ground: 0 V reference. This should nominally be the same voltage as VSS, but should be isolated to minimize noise and error.", 63 VREF "ADC reference: This should be nominally the same voltage as VDD but should be isolated to minimize noise and error. Level on this pin is used as a reference for A/D and D/A convertor(s)."

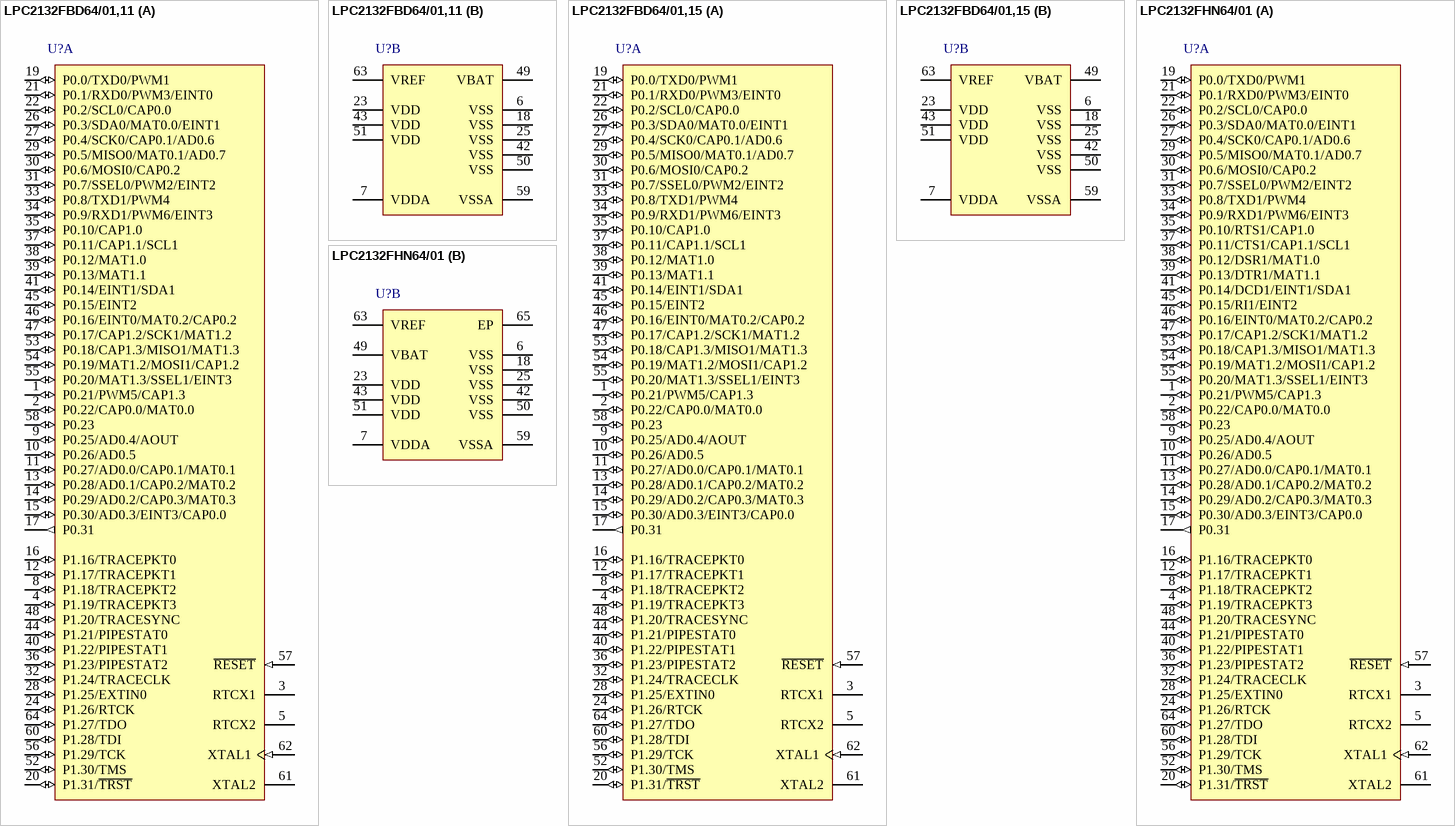
[diagram p8: symbols LPC2132FBD64/01,11 to LPC2132FHN64/01]

## LPC2132FBD64/01,11
designator U?
16/32-bit ARM7 Microcontroller, 47 I/O, 64 kB Flash, 16 kB SRAM, -40 to 85 degC, 64-Pin LQFP, Reel; Manufacturer: NXP Semiconductors; PartNumber: LPC2132FBD64/01,11; # of timers: 2; ADC (bits): 10; ADC Channels: 8; Flash (KB): 64; fmax [max] (MHz): 60; I/O Pins: 47; PLL: TRUE; PWM: 6; RAM (KB): 16; SPI: 1; Timer (bits): 32; DatasheetVersion: Rev. 5.1; PackageVersion: Feb-03; PackageReference: SOT314-2; PackageDescription: 64-Pin Plastic Low Profile Quad Flat Package, Body 10 x 10 mm, Pitch 0.5 mm; Supplier 1: Digi-Key; Supplier Part Number 1: LPC2132FBD64/01,11-ND; Supplier 2: Mouser; Supplier Part Number 2: 771-LPC2132FBD640111; Core: ARM7; I2C: 2; Packing: Reel; SSP: 1; UART: 2; Mounting Technology: Surface Mount; Code_JEDEC: MS-026; ComponentLink1Description: Manufacturer URL; ComponentLink1URL: http://www.nxp.com/; ComponentLink2Description: Datasheet; ComponentLink2URL: http://www.nxp.com/documents/data_sheet/LPC2131_32_34_36_38.pdf; ComponentLink3Description: Package Specification; ComponentLink3URL: http://www.nxp.com/documents/outline_drawing/sot314-2_po.pdf
footprint NXP-SOT314-2_V (QFP, 64-Leads, Body 10x10mm, Pitch 0.5mm)
part A pins: 1 P0.21/PWM5/CAP1.3 (io), 2 P0.22/CAP0.0/MAT0.0 (io), 3 RTCX1 "Input to the RTC oscillator circuit.", 4 P1.19/TRACEPKT3 (io), 5 RTCX2 "Output from the RTC oscillator circuit.", 8 P1.18/TRACEPKT2 (io), 9 P0.25/AD0.4/AOUT (io), 10 P0.26/AD0.5 (io), 11 P0.27/AD0.0/CAP0.1/MAT0.1 (io), 12 P1.17/TRACEPKT1 (io), 13 P0.28/AD0.1/CAP0.2/MAT0.2 (io), 14 P0.29/AD0.2/CAP0.3/MAT0.3 (io), 15 P0.30/AD0.3/EINT3/CAP0.0 (io), 16 P1.16/TRACEPKT0 (io), 17 P0.31 (out) "General purpose digital output only pin.", 19 P0.0/TXD0/PWM1 (io), 20 P1.31/~{TRST} (io), 21 P0.1/RXD0/PWM3/EINT0 (io), 22 P0.2/SCL0/CAP0.0 (io), 24 P1.26/RTCK (io), 26 P0.3/SDA0/MAT0.0/EINT1 (io), 27 P0.4/SCK0/CAP0.1/AD0.6 (io), 28 P1.25/EXTIN0 (io), 29 P0.5/MISO0/MAT0.1/AD0.7 (io), 30 P0.6/MOSI0/CAP0.2 (io), 31 P0.7/SSEL0/PWM2/EINT2 (io), 32 P1.24/TRACECLK (io), 33 P0.8/TXD1/PWM4 (io), 34 P0.9/RXD1/PWM6/EINT3 (io), 35 P0.10/CAP1.0 (io), 36 P1.23/PIPESTAT2 (io), 37 P0.11/CAP1.1/SCL1 (io), 38 P0.12/MAT1.0 (io), 39 P0.13/MAT1.1 (io), 40 P1.22/PIPESTAT1 (io), 41 P0.14/EINT1/SDA1 (io), 44 P1.21/PIPESTAT0 (io), 45 P0.15/EINT2 (io), 46 P0.16/EINT0/MAT0.2/CAP0.2 (io), 47 P0.17/CAP1.2/SCK1/MAT1.2 (io), 48 P1.20/TRACESYNC (io), 52 P1.30/TMS (io), 53 P0.18/CAP1.3/MISO1/MAT1.3 (io), 54 P0.19/MAT1.2/MOSI1/CAP1.2 (io), 55 P0.20/MAT1.3/SSEL1/EINT3 (io), 56 P1.29/TCK (io), 57 ~{RESET} (in) "External reset input: A LOW on this pin resets the device, causing I/O ports and peripherals to take on their default states, and processor execution to begin at address 0. TTL with hysteresis, 5 V tolerant.", 58 P0.23 (io) "General purpose digital input/output pin.", 60 P1.28/TDI (io), 61 XTAL2 "Output from the oscillator amplifier.", 62 XTAL1 (in) "Input to the oscillator circuit and internal clock generator circuits.", 64 P1.27/TDO (io)
part B pins: 6 VSS (power) "Ground: 0 V reference.", 7 VDDA (power) "Analog 3.3 V power supply: This should be nominally the same voltage as VDD but should be isolated to minimize noise and error. This voltage is used to power the on-chip PLL.", 18 VSS (power) "Ground: 0 V reference.", 23 VDD (power) "3.3 V power supply: This is the power supply voltage for the core and I/O ports.", 25 VSS (power) "Ground: 0 V reference.", 42 VSS (power) "Ground: 0 V reference.", 43 VDD (power) "3.3 V power supply: This is the power supply voltage for the core and I/O ports.", 49 VBAT (power) "RTC power supply: 3.3 V on this pin supplies the power to the RTC.", 50 VSS (power) "Ground: 0 V reference.", 51 VDD (power) "3.3 V power supply: This is the power supply voltage for the core and I/O ports.", 59 VSSA (power) "Analog ground: 0 V reference. This should nominally be the same voltage as VSS, but should be isolated to minimize noise and error.", 63 VREF "ADC reference: This should be nominally the same voltage as VDD but should be isolated to minimize noise and error. Level on this pin is used as a reference for A/D and D/A convertor(s)."

## LPC2132FBD64/01,15
designator U?
16/32-bit ARM7 Microcontroller, 47 I/O, 64 kB Flash, 16 kB SRAM, -40 to 85 degC, 64-Pin LQFP, Tray; Manufacturer: NXP Semiconductors; PartNumber: LPC2132FBD64/01,15; # of timers: 2; ADC (bits): 10; ADC Channels: 8; Flash (KB): 64; fmax [max] (MHz): 60; I/O Pins: 47; PLL: TRUE; PWM: 6; RAM (KB): 16; SPI: 1; Timer (bits): 32; DatasheetVersion: Rev. 5.1; PackageVersion: Feb-03; PackageReference: SOT314-2; PackageDescription: 64-Pin Plastic Low Profile Quad Flat Package, Body 10 x 10 mm, Pitch 0.5 mm; Supplier 1: Digi-Key; Supplier Part Number 1: 568-4006-ND; Supplier 2: Farnell; Supplier Part Number 2: 1831177; Supplier 3: Newark; Supplier Part Number 3: 70R5621; Supplier 4: Mouser; Supplier Part Number 4: 771-LPC2132FBD64/01S; Core: ARM7; I2C: 2; Packing: Tray; SSP: 1; UART: 2; Mounting Technology: Surface Mount; Code_JEDEC: MS-026; ComponentLink1Description: Manufacturer URL; ComponentLink1URL: http://www.nxp.com/; ComponentLink2Description: Datasheet; ComponentLink2URL: http://www.nxp.com/documents/data_sheet/LPC2131_32_34_36_38.pdf; ComponentLink3Description: Package Specification; ComponentLink3URL: http://www.nxp.com/documents/outline_drawing/sot314-2_po.pdf
footprint NXP-SOT314-2_V (QFP, 64-Leads, Body 10x10mm, Pitch 0.5mm)
part A pins: 1 P0.21/PWM5/CAP1.3 (io), 2 P0.22/CAP0.0/MAT0.0 (io), 3 RTCX1 "Input to the RTC oscillator circuit.", 4 P1.19/TRACEPKT3 (io), 5 RTCX2 "Output from the RTC oscillator circuit.", 8 P1.18/TRACEPKT2 (io), 9 P0.25/AD0.4/AOUT (io), 10 P0.26/AD0.5 (io), 11 P0.27/AD0.0/CAP0.1/MAT0.1 (io), 12 P1.17/TRACEPKT1 (io), 13 P0.28/AD0.1/CAP0.2/MAT0.2 (io), 14 P0.29/AD0.2/CAP0.3/MAT0.3 (io), 15 P0.30/AD0.3/EINT3/CAP0.0 (io), 16 P1.16/TRACEPKT0 (io), 17 P0.31 (out) "General purpose digital output only pin.", 19 P0.0/TXD0/PWM1 (io), 20 P1.31/~{TRST} (io), 21 P0.1/RXD0/PWM3/EINT0 (io), 22 P0.2/SCL0/CAP0.0 (io), 24 P1.26/RTCK (io), 26 P0.3/SDA0/MAT0.0/EINT1 (io), 27 P0.4/SCK0/CAP0.1/AD0.6 (io), 28 P1.25/EXTIN0 (io), 29 P0.5/MISO0/MAT0.1/AD0.7 (io), 30 P0.6/MOSI0/CAP0.2 (io), 31 P0.7/SSEL0/PWM2/EINT2 (io), 32 P1.24/TRACECLK (io), 33 P0.8/TXD1/PWM4 (io), 34 P0.9/RXD1/PWM6/EINT3 (io), 35 P0.10/CAP1.0 (io), 36 P1.23/PIPESTAT2 (io), 37 P0.11/CAP1.1/SCL1 (io), 38 P0.12/MAT1.0 (io), 39 P0.13/MAT1.1 (io), 40 P1.22/PIPESTAT1 (io), 41 P0.14/EINT1/SDA1 (io), 44 P1.21/PIPESTAT0 (io), 45 P0.15/EINT2 (io), 46 P0.16/EINT0/MAT0.2/CAP0.2 (io), 47 P0.17/CAP1.2/SCK1/MAT1.2 (io), 48 P1.20/TRACESYNC (io), 52 P1.30/TMS (io), 53 P0.18/CAP1.3/MISO1/MAT1.3 (io), 54 P0.19/MAT1.2/MOSI1/CAP1.2 (io), 55 P0.20/MAT1.3/SSEL1/EINT3 (io), 56 P1.29/TCK (io), 57 ~{RESET} (in) "External reset input: A LOW on this pin resets the device, causing I/O ports and peripherals to take on their default states, and processor execution to begin at address 0. TTL with hysteresis, 5 V tolerant.", 58 P0.23 (io) "General purpose digital input/output pin.", 60 P1.28/TDI (io), 61 XTAL2 "Output from the oscillator amplifier.", 62 XTAL1 (in) "Input to the oscillator circuit and internal clock generator circuits.", 64 P1.27/TDO (io)
part B pins: 6 VSS (power) "Ground: 0 V reference.", 7 VDDA (power) "Analog 3.3 V power supply: This should be nominally the same voltage as VDD but should be isolated to minimize noise and error. This voltage is used to power the on-chip PLL.", 18 VSS (power) "Ground: 0 V reference.", 23 VDD (power) "3.3 V power supply: This is the power supply voltage for the core and I/O ports.", 25 VSS (power) "Ground: 0 V reference.", 42 VSS (power) "Ground: 0 V reference.", 43 VDD (power) "3.3 V power supply: This is the power supply voltage for the core and I/O ports.", 49 VBAT (power) "RTC power supply: 3.3 V on this pin supplies the power to the RTC.", 50 VSS (power) "Ground: 0 V reference.", 51 VDD (power) "3.3 V power supply: This is the power supply voltage for the core and I/O ports.", 59 VSSA (power) "Analog ground: 0 V reference. This should nominally be the same voltage as VSS, but should be isolated to minimize noise and error.", 63 VREF "ADC reference: This should be nominally the same voltage as VDD but should be isolated to minimize noise and error. Level on this pin is used as a reference for A/D and D/A convertor(s)."